# EAGLE library part ESP32-DEVKITV1 (library BottleSumo Library v104)
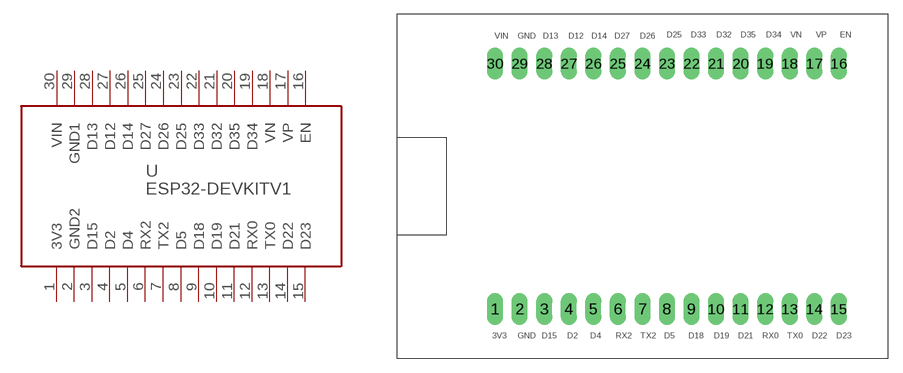
[diagram p7: symbol with the pads of ESP32-DEVKITV1; footprint ESP32-DEVKITV1]

Designator prefix U

## ESP32-DEVKITV1  [ESP32-DEVKITV1]
1  3V3
2  GND2
3  D15
4  D2
5  D4
6  RX2
7  TX2
8  D5
9  D18
10  D19
11  D21
12  RX0
13  TX0
14  D22
15  D23
16  EN
17  VP
18  VN
19  D34
20  D35
21  D32
22  D33
23  D25
24  D26
25  D27
26  D14
27  D12
28  D13
29  GND1
30  VIN

## Footprint ESP32-DEVKITV1 (pad centres in mm)
drill 1 pad 1.676 long: 1 -15.24,-12.7; 2 -12.7,-12.7; 3 -10.16,-12.7; 4 -7.62,-12.7; 5 -5.08,-12.7; 6 -2.54,-12.7; 7 0,-12.7; 8 2.54,-12.7; 9 5.08,-12.7; 10 7.62,-12.7; 11 10.16,-12.7; 12 12.7,-12.7; 13 15.24,-12.7; 14 17.78,-12.7; 15 20.32,-12.7; 16 20.32,12.7; 17 17.78,12.7; 18 15.24,12.7; 19 12.7,12.7; 20 10.16,12.7; 21 7.62,12.7; 22 5.08,12.7; 23 2.54,12.7; 24 0,12.7; 25 -2.54,12.7; 26 -5.08,12.7; 27 -7.62,12.7; 28 -10.16,12.7; 29 -12.7,12.7; 30 -15.24,12.7